# EAGLE library part FT231X (library imix)
FT231X USB to serial converter.
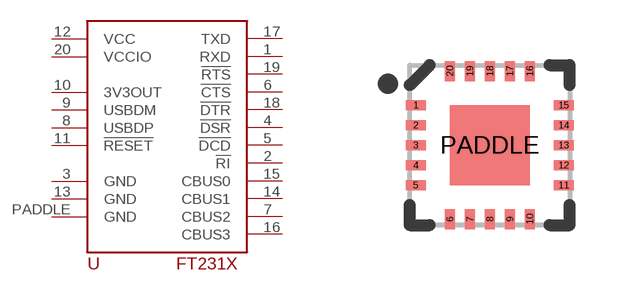
[diagram p14: symbol with the pads of QFN20; footprint QFN20]

Designator prefix U

## FT231X  [QFN20]
1  RXD
2  !RI
3  GND
4  !DSR
5  !DCD
6  !CTS
7  CBUS2
8  USBDP
9  USBDM
10  3V3OUT
11  !RESET
12  VCC
13  GND
14  CBUS1
15  CBUS0
16  CBUS3
17  TXD
18  !DTR
19  !RTS
20  VCCIO
PADDLE  GND

## Footprint QFN20 (pad centres in mm)
QFN20 Package, 4mm X 4mm.
smd 0.5 x 0.25: 1 -1.85,1; 2 -1.85,0.5; 3 -1.85,0; 4 -1.85,-0.5; 5 -1.85,-1; 11 1.85,-1; 12 1.85,-0.5; 13 1.85,0; 14 1.85,0.5; 15 1.85,1
smd 0.25 x 0.5: 6 -1,-1.85; 7 -0.5,-1.85; 8 0,-1.85; 9 0.5,-1.85; 10 1,-1.85; 16 1,1.85; 17 0.5,1.85; 18 0,1.85; 19 -0.5,1.85; 20 -1,1.85
smd 2 x 2: PADDLE 0,0